# EAGLE library part UPDUINO3P0 (library StarLiteLib)
UPduino v3.0 Board
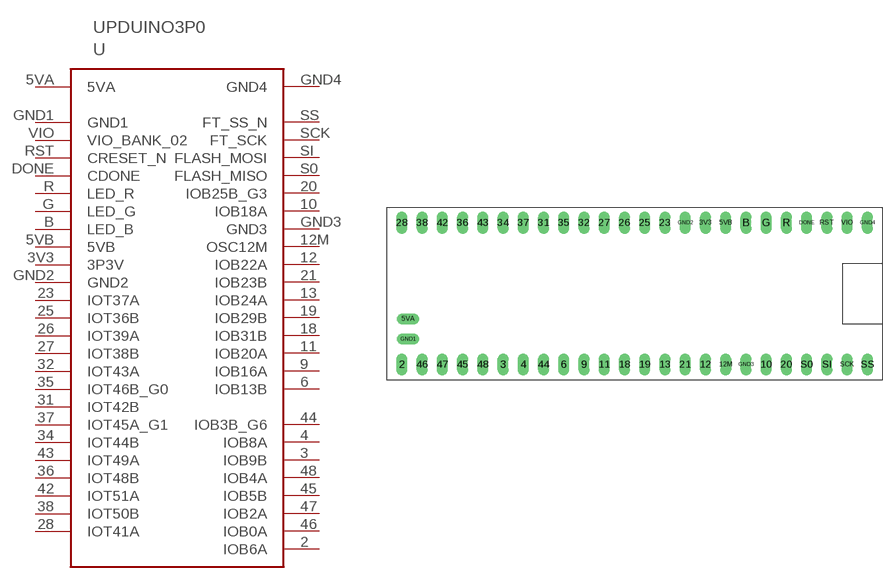
[diagram p7: symbol with the pads of UPDUINO3P0; footprint UPDUINO3P0]

Designator prefix -

## UPDUINO3P0  [UPDUINO3P0]
2  IOB6A
3  IOB9B
3V3  3P3V  pas
4  IOB8A
5VA  5VA  pwr
5VB  5VB  pwr
6  IOB13B
9  IOB16A
10  IOB18A
11  IOB20A
12  IOB22A
12M  OSC12M
13  IOB24A
18  IOB31B
19  IOB29B
20  IOB25B_G3
21  IOB23B
23  IOT37A
25  IOT36B
26  IOT39A
27  IOT38B
28  IOT41A
31  IOT42B
32  IOT43A
34  IOT44B
35  IOT46B_G0
36  IOT48B
37  IOT45A_G1
38  IOT50B
42  IOT51A
43  IOT49A
44  IOB3B_G6
45  IOB5B
46  IOB0A
47  IOB2A
48  IOB4A
B  LED_B
DONE  CDONE
G  LED_G
GND1  GND1  pwr
GND2  GND2  pwr
GND3  GND3  pwr
GND4  GND4  pwr
R  LED_R
RST  CRESET_N
S0  FLASH_MISO
SCK  FT_SCK
SI  FLASH_MOSI
SS  FT_SS_N
VIO  VIO_BANK_02

## Footprint UPDUINO3P0 (pad centres in mm)
Dual In Line Package 0.7 inch
drill 0.9 long: 2 -24.13,-7.62; 3 -11.43,-7.62; 3V3 13.97,10.16; 4 -8.89,-7.62; 5VA -23.368,-1.905; 5VB 16.51,10.16; 6 -3.81,-7.62; 9 -1.27,-7.62; 10 21.59,-7.62; 11 1.27,-7.62; 12 13.97,-7.62; 12M 16.51,-7.62; 13 8.89,-7.62; 18 3.81,-7.62; 19 6.35,-7.62; 20 24.13,-7.62; 21 11.43,-7.62; 23 8.89,10.16; 25 6.35,10.16; 26 3.81,10.16; 27 1.27,10.16; 28 -24.13,10.16; 31 -6.35,10.16; 32 -1.27,10.16; 34 -11.43,10.16; 35 -3.81,10.16; 36 -16.51,10.16; 37 -8.89,10.16; 38 -21.59,10.16; 42 -19.05,10.16; 43 -13.97,10.16; 44 -6.35,-7.62; 45 -16.51,-7.62; 46 -21.59,-7.62; 47 -19.05,-7.62; 48 -13.97,-7.62; B 19.05,10.16; DONE 26.67,10.16; G 21.59,10.16; GND1 -23.368,-4.445; GND2 11.43,10.16; GND3 19.05,-7.62; GND4 34.29,10.16; R 24.13,10.16; RST 29.21,10.16; S0 26.67,-7.62; SCK 31.75,-7.62; SI 29.21,-7.62; SS 34.29,-7.62; VIO 31.75,10.16